# Altium schematic symbol library Local Library.SchLib: 47 symbols
Pins are listed as number, name and electrical type; pins without a type are passive.

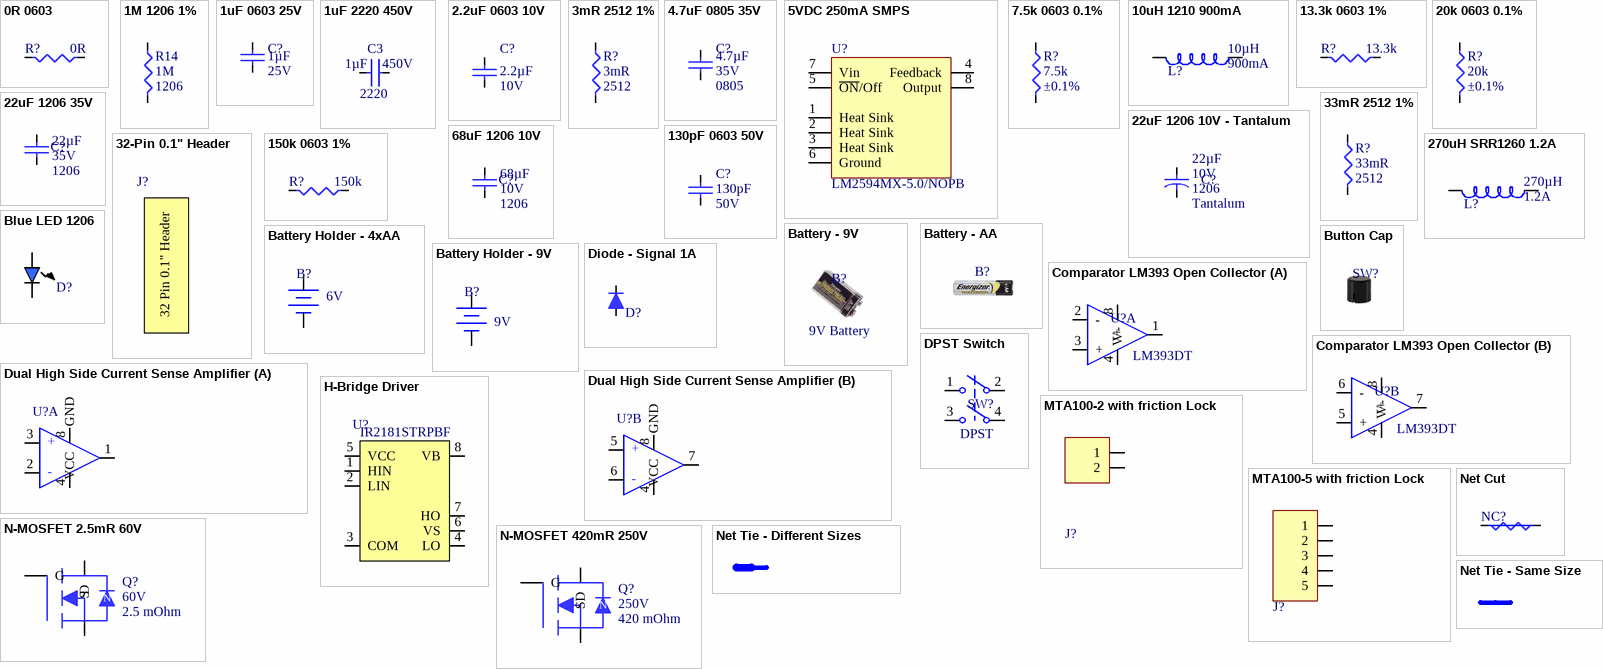
[diagram p0: symbols 0R 0603 to Net Tie - Same Size]

## 0R 0603
designator R?  Resistance (Ohms): 0R
Manufacturer: Yageo; Manufacturer Part Number: RC0603JR-070RL; Value: 0R 0603; Tolerance: Jumper; Power (Watts): 0.1W, 1/10W; Supplier 1: Digi-Key; RoHS: RoHS Compliant; Category: Resistors; Stock 1: 9876788; Pricing 1: 1=0.1, 10=0.01, 25=0.0072, 50=0.0056, 100=0.0041, 250=0.00316, 500=0.00252, 1000=0.00186 (USD); Packaging: Cut Tape (CT); Part Status: Active; Composition: Thick Film; Features: Moisture Resistant; Temperature Coefficient: -; Operating Temperature: -55°C ~ 155°C; Package / Case: 0603 (1608 Metric); Supplier Device Package: 0603; Size / Dimension: 0.063" L x 0.031" W (1.60mm x 0.80mm); Height - Seated (Max): 0.022" (0.55mm); Failure Rate: -; ComponentLink1URL: http://www.yageo.com/documents/recent/PYu-RC_Group_51_RoHS_L_7.pdf; ComponentLink1Description: Spec Sheet; Supplier Part Number 1: 311-0.0GRCT-ND
footprint R0603 (Improved footprint)
pins: 1, 2

## 1M 1206 1%
designator R14  Resistance (Ohms): 1M  Supplier Device Package: 1206  (hidden comment: 1M 1206 1%)
Resistor; Manufacturer: Yageo; Manufacturer Part Number: RV1206FR-071ML; Power (Watts): 0.25W, 1/4W; Temperature Coefficient: ±200ppm/°C; Value: 1M 1206 1%; Supplier 1: Digi-Key; Supplier Part Number 1: 311-1MNICT-ND; RoHS: RoHS Compliant; Category: Resistors; Stock 1: 79790; Pricing 1: 1=0.34, 10=0.289, 25=0.2104, 50=0.1526, 100=0.1131, 250=0.0868, 500=0.06838, 1000=0.04734 (USD); Packaging: Cut Tape (CT); Part Status: Active; Tolerance: ±1%; Composition: Thick Film; Features: High Voltage, Moisture Resistant; Operating Temperature: -55°C ~ 155°C; Size / Dimension: 0.122" L x 0.063" W (3.10mm x 1.60mm); Height - Seated (Max): 0.026" (0.65mm); Number of Terminations: 2; Failure Rate: -; ComponentLink1URL: http://www.yageo.com/documents/recent/PYu-RV_51_RoHS_L_6.pdf; ComponentLink1Description: Spec Sheet; Package / Case: 1206
footprint R1210
pins: 1, 2

## 1uF 0603 25V
designator C?  Voltage - Rated: 25V  Capacitance: 1µF
Non-polarized; Manufacturer: Murata Electronics North America; Manufacturer Part Number: GRM188R61E105KA12D; Value: 1uF 0603 16V; Tolerance: ±10%; Temperature Coefficient: X5R; Supplier 1: Digi-Key; RoHS: RoHS Compliant; Category: Capacitors; Stock 1: 1582906; Pricing 1: 1=0.14, 10=0.059, 50=0.0322, 100=0.0273, 250=0.02232, 500=0.01908, 1000=0.01488 (CAD); Packaging: Cut Tape (CT); Mounting Type: Surface Mount, MLCC; Operating Temperature: -55°C ~ 85°C; Applications: General Purpose; Ratings: -; Package / Case: 0603 (1608 Metric); Size / Dimension: 0.063" L x 0.031" W (1.60mm x 0.80mm); Height - Seated (Max): -; Thickness (Max): 0.035" (0.90mm); Lead Spacing: -; Features: -; Lead Style: -; ComponentLink1URL: http://www.murata.com/~/media/webrenewal/support/library/catalog/products/capacitor/mlcc/c02e.ashx; ComponentLink1Description: Spec Sheet; Supplier Part Number 1: 490-3897-1-ND
footprint Capacitor - 0603 Ceramic (Improved footprint)
pins: 1, 2

## 1uF 2220 450V
designator C3  Capacitance: 1µF  Voltage - Rated: 450V  Package / Case: 2220
Manufacturer: TDK Corporation; Manufacturer Part Number: CGA9P4X7T2W105M250KE; Tolerance: ±20%; Temperature Coefficient: X7T; Value: 1uF 2220 450V; Supplier 1: Digi-Key; Supplier Part Number 1: 445-7998-1-ND; RoHS: RoHS Compliant; Category: Capacitors; Stock 1: 10247; Pricing 1: 1=3.11, 10=2.576, 100=2.1589, 250=1.78012 (USD); Packaging: Cut Tape (CT); Part Status: Active; Operating Temperature: -55°C ~ 125°C; Features: Soft Termination; Ratings: AEC-Q200; Applications: Automotive, Boardflex Sensitive; Failure Rate: -; Mounting Type: Surface Mount, MLCC; Size / Dimension: 0.224" L x 0.197" W (5.70mm x 5.00mm); Height - Seated (Max): -; Thickness (Max): 0.098" (2.50mm); Lead Spacing: -; Lead Style: -; ComponentLink1URL: https://product.tdk.com/info/en/catalog/datasheets/mlcc_automotive_soft_en.pdf; ComponentLink1Description: Spec Sheet
footprint C2220 - Ceramic (Chip Capacitor, 2-Leads, Body 5.75x5.00mm, IPC Medium Density)
pins: 1, 2

## 2.2uF 0603 10V
designator C?  Voltage - Rated: 10V  Capacitance: 2.2µF
Polarized; Manufacturer: Taiyo Yuden; Manufacturer Part Number: LMK107B7225KA-T; Value: 2.2uF 0603 10V; Tolerance: ±10%; Temperature Coefficient: X7R; Supplier 1: Digi-Key; RoHS: RoHS Compliant; Category: Capacitors; Stock 1: 348987; Pricing 1: 1=0.19, 10=0.135, 100=0.0633, 500=0.04438, 1000=0.03675 (USD); Packaging: Cut Tape (CT); Part Status: Active; Operating Temperature: -55°C ~ 125°C; Features: -; Ratings: -; Applications: General Purpose; Mounting Type: Surface Mount, MLCC; Package / Case: 0603 (1608 Metric); Size / Dimension: 0.063" L x 0.031" W (1.60mm x 0.80mm); Height - Seated (Max): -; Thickness (Max): 0.035" (0.90mm); Lead Spacing: -; Lead Style: -; ComponentLink1URL: http://media.digikey.com/pdf/Data%20Sheets/Taiyo%20Yuden%20PDFs%20URL%20links/LMK107B7225KA-T.pdf; ComponentLink1Description: Spec Sheet; Supplier Part Number 1: 587-2983-1-ND
pins: 1, 2

## 3mR 2512 1%
designator R?  Resistance (Ohms): 3mR  Supplier Device Package: 2512
Manufacturer: Yageo; Manufacturer Part Number: PR2512FKF070R003L; Value: 3mR 2512 1%; Tolerance: ±1%; Power (Watts): 1W; Temperature Coefficient: ±100ppm/°C; Supplier 1: Digi-Key; Supplier Part Number 1: 311-0.003AGCT-ND; RoHS: RoHS Compliant; Category: Resistors; Stock 1: 16866; Pricing 1: 1=0.65, 10=0.544, 25=0.466, 50=0.4196, 100=0.3652, 250=0.32632, 500=0.26416, 1000=0.21366 (USD); Packaging: Cut Tape (CT); Part Status: Active; Composition: Thick Film; Features: Current Sense; Operating Temperature: -55°C ~ 170°C; Package / Case: 2512 (6432 Metric); Size / Dimension: 0.252" L x 0.126" W (6.40mm x 3.20mm); Height - Seated (Max): 0.041" (1.03mm); Number of Terminations: 2; Failure Rate: -; ComponentLink1URL: http://www.yageo.com/NewPortal/yageodocoutput?fileName=/pdf/R-Chip/-PYu-PR_51_RoHS_Z_0.pdf; ComponentLink1Description: Spec Sheet
footprint R2512
pins: 1, 2

## 4.7uF 0805 35V
designator C?  Voltage - Rated: 35V  Package / Case: 0805  Capacitance: 4.7µF
Non-polarized; Manufacturer: Samsung Electro-Mechanics America, Inc.; Manufacturer Part Number: CL21A475KLCLQNC; Value: 4.7uF 0805 35V; Tolerance: ±10%; Temperature Coefficient: X5R; Supplier 1: Digi-Key; RoHS: RoHS Compliant; Category: Capacitors; Stock 1: 145582; Pricing 1: 1=0.17, 10=0.119, 100=0.0561, 500=0.03932, 1000=0.03255 (USD); Packaging: Cut Tape (CT); Part Status: Active; Operating Temperature: -55°C ~ 85°C; Features: Low Profile; Ratings: -; Applications: General Purpose; Mounting Type: Surface Mount, MLCC; Size / Dimension: 0.079" L x 0.049" W (2.00mm x 1.25mm); Height - Seated (Max): -; Thickness (Max): 0.037" (0.95mm); Lead Spacing: -; Lead Style: -; ComponentLink1URL: http://www.samsungsem.com/kr/support/library/product-catalog/mlcc.jsp; ComponentLink1Description: Spec Sheet; Supplier Part Number 1: 1276-6722-1-ND
pins: 1, 2

## 5VDC 250mA SMPS
designator U?  Manufacturer Part Number: LM2594MX-5.0/NOPB
Manufacturer: Texas Instruments; Value: 5VDC 250mA SMPS; Function: Step-Down; Output Configuration: Positive; Topology: Buck; Output Type: Fixed; Number of Outputs: 1; Voltage - Input (Min): 4.5V; Voltage - Input (Max): 40V; Voltage - Output (Min/Fixed): 5V; Current - Output: 500mA; Frequency - Switching: 150kHz; Synchronous Rectifier: No; Supplier 1: Digi-Key; RoHS: RoHS Compliant; Category: Integrated Circuits (ICs); Stock 1: 3233; Pricing 1: 1=3.28, 10=2.942, 100=2.4102, 500=2.05176, 1000=1.7304 (USD); Packaging: Cut Tape (CT); Part Status: Active; Voltage - Output (Max): -; Operating Temperature: -40°C ~ 125°C (TJ); Mounting Type: Surface Mount; Package / Case: 8-SOIC (0.154", 3.90mm Width); Supplier Device Package: 8-SOIC; ComponentLink1URL: http://www.ti.com/lit/ds/symlink/lm2594.pdf; ComponentLink1Description: Spec Sheet; Supplier Part Number 1: LM2594MX-5.0/NOPBCT-ND
pins: 1 Heat Sink, 2 Heat Sink, 3 Heat Sink, 4 Feedback, 5 ~{ON}/Off, 6 Ground, 7 Vin, 8 Output

## 7.5k 0603 0.1%
designator R?  Resistance (Ohms): 7.5k  Tolerance: ±0.1%
Resistor; Manufacturer: Yageo; Manufacturer Part Number: RT0603BRD077K5L; Value: 7.5k 0603 0.1%; Power (Watts): 0.1W, 1/10W; Temperature Coefficient: ±25ppm/°C; Technology: SMT; Supplier 1: Digi-Key; Supplier Part Number 1: YAG2311CT-ND; RoHS: RoHS Compliant; Category: Resistors; Stock 1: 15357; Pricing 1: 1=0.32, 10=0.269, 25=0.1952, 50=0.1416, 100=0.105, 250=0.0806, 500=0.0635, 1000=0.04396 (USD); Packaging: Cut Tape (CT); Part Status: Active; Composition: Thin Film; Features: Moisture Resistant; Operating Temperature: -55°C ~ 155°C; Package / Case: 0603 (1608 Metric); Supplier Device Package: 0603; Size / Dimension: 0.063" L x 0.031" W (1.60mm x 0.80mm); Height - Seated (Max): 0.022" (0.55mm); Number of Terminations: 2; Failure Rate: -; ComponentLink1URL: http://www.yageo.com/documents/recent/PYu-RT_1-to-0.05_RoHS_L_7.pdf; ComponentLink1Description: Spec Sheet
footprint R0603 (Improved footprint)
pins: 1, 2

## 10uH 1210 900mA
designator L?  Inductance: 10µH  Current - Saturation: 900mA
Inductor; Manufacturer: Taiyo Yuden; Manufacturer Part Number: CBC3225T100KR; Value: 10uH 1210 900mA; Type: Wirewound; Material - Core: Ferrite; Tolerance: ±10%; Shielding: Unshielded; DC Resistance (DCR): 172.9 mOhm Max; Frequency - Self Resonant: 23MHz; Supplier 1: Digi-Key; RoHS: RoHS Compliant; Category: Inductors, Coils, Chokes; Stock 1: 25536; Pricing 1: 1=0.27, 10=0.237, 25=0.2076, 50=0.178, 100=0.1632, 250=0.1484, 500=0.1395 (USD); Packaging: Cut Tape (CT); Part Status: Active; Current Rating: 900mA; Q @ Freq: -; Ratings: -; Operating Temperature: -40°C ~ 105°C; Mounting Type: Surface Mount; Supplier Device Package: 1210; Size / Dimension: 0.126" L x 0.098" W (3.20mm x 2.50mm); Height - Seated (Max): 0.106" (2.70mm); ComponentLink1URL: http://ds.yuden.co.jp/TYCOMPAS/ut/detail.do?productNo=CBC3225T100KR&fileName=CBC3225T100KR_SS&mode=specSheetDownload; ComponentLink1Description: Spec Sheet; Supplier Part Number 1: 587-3064-1-ND; Package / Case: 1210
pins: 1, 2

## 13.3k 0603 1%
designator R?  Resistance (Ohms): 13.3k
Manufacturer: Yageo; Manufacturer Part Number: RC0603FR-0713K3L; Value: 13.3k 0603 1%; Tolerance: ±1%; Power (Watts): 0.1W, 1/10W; Temperature Coefficient: ±100ppm/°C; Supplier 1: Digi-Key; RoHS: RoHS Compliant; Category: Resistors; Stock 1: 289877; Pricing 1: 1=0.1, 10=0.015, 100=0.006, 1000=0.00268, 2500=0.00233 (USD); Packaging: Cut Tape (CT); Part Status: Active; Composition: Thick Film; Features: Moisture Resistant; Operating Temperature: -55°C ~ 155°C; Package / Case: 0603 (1608 Metric); Supplier Device Package: 0603; Size / Dimension: 0.063" L x 0.031" W (1.60mm x 0.80mm); Height - Seated (Max): 0.022" (0.55mm); Failure Rate: -; ComponentLink1URL: http://www.yageo.com/documents/recent/PYu-RC_Group_51_RoHS_L_7.pdf; ComponentLink1Description: Spec Sheet; Supplier Part Number 1: 311-13.3KHRCT-ND
footprint R0603 (Improved footprint)
pins: 1, 2

## 20k 0603 0.1%
designator R?  Resistance (Ohms): 20k  Tolerance: ±0.1%
Resistor; Manufacturer: Yageo; Manufacturer Part Number: RT0603BRD0720KL; Value: 20k 0603 0.1%; Power (Watts): 0.1W, 1/10W; Temperature Coefficient: ±25ppm/°C; Technology: SMT; Supplier 1: Digi-Key; Supplier Part Number 1: YAG1582CT-ND; RoHS: RoHS Compliant; Category: Resistors; Stock 1: 24543; Pricing 1: 1=0.35, 10=0.297, 25=0.216, 50=0.1566, 100=0.1161, 250=0.08912, 500=0.0702, 1000=0.0486 (USD); Packaging: Cut Tape (CT); Part Status: Active; Composition: Thin Film; Features: Moisture Resistant; Operating Temperature: -55°C ~ 155°C; Package / Case: 0603 (1608 Metric); Supplier Device Package: 0603; Size / Dimension: 0.063" L x 0.031" W (1.60mm x 0.80mm); Height - Seated (Max): 0.022" (0.55mm); Number of Terminations: 2; Failure Rate: -; ComponentLink1URL: http://www.yageo.com/documents/recent/PYu-RT_1-to-0.05_RoHS_L_7.pdf; ComponentLink1Description: Spec Sheet
footprint R0603 (Improved footprint)
pins: 1, 2

## 22uF 1206 10V - Tantalum
designator C?  Voltage - Rated: 10V  Package / Case: 1206  Capacitance: 22µF  Material: Tantalum
Polarized; Manufacturer: AVX Corporation; Manufacturer Part Number: TPSA226M010R0900; Manufacturer Size Code: A; Value: 22uF 1206 10V - Tantalum; Tolerance: ±20%; Type: Molded; ESR (Equivalent Series Resistance): 900 mOhm; Supplier 1: Digi-Key; RoHS: RoHS Compliant; Category: Capacitors; Stock 1: 13605; Pricing 1: 1=0.77, 10=0.567, 100=0.3889, 500=0.30788, 1000=0.25927 (USD); Packaging: Cut Tape (CT); Part Status: Active; Operating Temperature: -55°C ~ 125°C; Lifetime @ Temp.: -; Mounting Type: Surface Mount; Size / Dimension: 0.126" L x 0.063" W (3.20mm x 1.60mm); Height - Seated (Max): 0.071" (1.80mm); Lead Spacing: -; Features: General Purpose; Failure Rate: -; ComponentLink1URL: http://datasheets.avx.com/TPS.pdf; ComponentLink1Description: Spec Sheet; Supplier Part Number 1: 478-9039-1-ND
pins: 1, 2

## 22uF 1206 35V
designator C?  Capacitance: 22µF  Voltage - Rated: 35V  Package / Case: 1206
Non-polarized; Manufacturer: TDK Corporation; Manufacturer Part Number: C3216X5R1V226M160AC; Value: 22uF 1206 35V; Tolerance: ±20%; Temperature Coefficient: X5R; Supplier 1: Digi-Key; RoHS: RoHS Compliant; Category: Capacitors; Stock 1: 661971; Pricing 1: 1=1.06, 10=0.835, 100=0.6262, 500=0.47312, 1000=0.41745 (USD); Packaging: Cut Tape (CT); Part Status: Active; Operating Temperature: -55°C ~ 85°C; Features: Low ESL; Ratings: -; Applications: General Purpose; Failure Rate: -; Mounting Type: Surface Mount, MLCC; Size / Dimension: 0.126" L x 0.063" W (3.20mm x 1.60mm); Height - Seated (Max): -; Thickness (Max): 0.071" (1.80mm); Lead Spacing: -; Lead Style: -; ComponentLink1URL: https://product.tdk.com/info/en/catalog/datasheets/mlcc_commercial_general_en.pdf; ComponentLink1Description: Spec Sheet; Supplier Part Number 1: 445-8045-1-ND
pins: 1, 2

## 32-Pin 0.1" Header
designator J?  (value not drawn)
Manufacturer: Wurth Electronics Inc; Manufacturer Part Number: 61303211821; Style: Board to Board; Number of Positions: 32; Number of Positions Loaded: All; Pitch - Mating: 0.100" (2.54mm); Contact Length - Post: 0.122" (3.10mm); Material Flammability Rating: UL94 V-0; Current Rating: 3A; Voltage Rating: 250VAC; Supplier 1: Digi-Key; RoHS: RoHS Compliant; Category: Connectors, Interconnects; Stock 1: 332; Pricing 1: 1=1.86, 10=1.788, 50=1.65, 100=1.5125, 500=1.375 (USD); Packaging: Tray; Part Status: Active; Connector Type: Header; Contact Type: Forked; Number of Rows: 1; Row Spacing - Mating: -; Mounting Type: Through Hole; Termination: Solder; Fastening Type: Push-Pull; Contact Finish - Mating: Gold; Contact Finish Thickness - Mating: -; Insulation Color: Black; Insulation Height: 0.335" (8.51mm); Operating Temperature: -40°C ~ 105°C; Contact Finish - Post: Gold; Mated Stacking Heights: -; Ingress Protection: -; Features: -; Applications: -; Insulation Material: Polybutylene Terephthalate (PBT); Contact Shape: Square; Contact Material: Copper Alloy; Contact Finish Thickness - Post: -; ComponentLink1URL: http://katalog.we-online.de/em/datasheet/6130xx11821.pdf; ComponentLink1Description: Spec Sheet; Supplier Part Number 1: 732-2860-ND
text: 32 Pin 0.1" Header

## 33mR 2512 1%
designator R?  Resistance (Ohms): 33mR  Supplier Device Package: 2512
Manufacturer: Yageo; Manufacturer Part Number: RL2512FK-070R033L; Value: 3mR 2512 1%; Tolerance: ±1%; Power (Watts): 1W; Temperature Coefficient: ±1200ppm/°C; Supplier 1: Digi-Key; Supplier Part Number 1: 311-.033TCT-ND; RoHS: RoHS Compliant; Category: Resistors; Stock 1: 13739; Pricing 1: 1=0.61, 10=0.453, 25=0.3676, 50=0.3196, 100=0.2636, 250=0.229, 500=0.1864, 1000=0.14784 (USD); Packaging: Cut Tape (CT); Part Status: Active; Composition: Thick Film; Features: Automotive AEC-Q200, Current Sense, Moisture Resistant; Operating Temperature: -55°C ~ 155°C; Package / Case: 2512 (6432 Metric); Size / Dimension: 0.250" L x 0.126" W (6.35mm x 3.20mm); Height - Seated (Max): 0.026" (0.65mm); Number of Terminations: 2; Failure Rate: -; ComponentLink1URL: http://www.yageo.com/documents/recent/PYu-RL_Group_521_RoHS_L%201.pdf; ComponentLink1Description: http://www.yageo.com/documents/recent/PYu-RL_Group_521_RoHS_L%201.pdf
footprint R2512
pins: 1, 2

## 68uF 1206 10V
designator C?  Voltage - Rated: 10V  Package / Case: 1206  Capacitance: 68µF
Non-polarized; Manufacturer: TDK Corporation; Manufacturer Part Number: C3216X5R1A686M160AC; Value: 68uF 1206 10V; Tolerance: ±20%; Temperature Coefficient: X5R; Supplier 1: Digi-Key; RoHS: RoHS Compliant; Category: Capacitors; Stock 1: 17695; Pricing 1: 1=1.59, 10=1.252, 100=0.9393, 500=0.70966, 1000=0.62618 (USD); Packaging: Cut Tape (CT); Part Status: Active; Operating Temperature: -55°C ~ 85°C; Features: Low ESL; Ratings: -; Applications: General Purpose; Failure Rate: -; Mounting Type: Surface Mount, MLCC; Size / Dimension: 0.126" L x 0.063" W (3.20mm x 1.60mm); Height - Seated (Max): -; Thickness (Max): 0.071" (1.80mm); Lead Spacing: -; Lead Style: -; ComponentLink1URL: https://product.tdk.com/info/en/catalog/datasheets/mlcc_commercial_general_en.pdf; ComponentLink1Description: Spec Sheet; Supplier Part Number 1: 445-14673-1-ND
pins: 1, 2

## 130pF 0603 50V
designator C?  Voltage - Rated: 50V  Capacitance: 130pF
Non-polarized; Manufacturer: Samsung Electro-Mechanics America, Inc.; Manufacturer Part Number: CL10C131JB8NNNC; Value: 130pF 0603 50V; Tolerance: ±5%; Temperature Coefficient: C0G, NP0; Supplier 1: Digi-Key; RoHS: RoHS Compliant; Category: Capacitors; Stock 1: 72882; Pricing 1: 1=0.1, 10=0.056, 100=0.0251, 500=0.0179, 1000=0.01407 (USD); Packaging: Cut Tape (CT); Part Status: Active; Operating Temperature: -55°C ~ 125°C; Features: -; Ratings: -; Applications: General Purpose; Mounting Type: Surface Mount, MLCC; Package / Case: 0603 (1608 Metric); Size / Dimension: 0.063" L x 0.031" W (1.60mm x 0.80mm); Height - Seated (Max): -; Thickness (Max): 0.035" (0.90mm); Lead Spacing: -; Lead Style: -; ComponentLink1URL: http://media.digikey.com/pdf/Data%20Sheets/Samsung%20PDFs/CL_Series_MLCC_ds.pdf; ComponentLink1Description: Spec Sheet; Supplier Part Number 1: 1276-2186-1-ND
pins: 1, 2

## 150k 0603 1%
designator R?  Resistance (Ohms): 150k
Manufacturer: Yageo; Manufacturer Part Number: RC0603FR-07150KL; Value: 150k 0603 1%; Tolerance: ±1%; Power (Watts): 0.1W, 1/10W; Temperature Coefficient: ±100ppm/°C; Supplier 1: Digi-Key; RoHS: RoHS Compliant; Category: Resistors; Stock 1: 705809; Pricing 1: 1=0.1, 10=0.015, 100=0.006, 1000=0.00268, 2500=0.00233 (USD); Packaging: Cut Tape (CT); Part Status: Active; Composition: Thick Film; Features: Moisture Resistant; Operating Temperature: -55°C ~ 155°C; Package / Case: 0603 (1608 Metric); Supplier Device Package: 0603; Size / Dimension: 0.063" L x 0.031" W (1.60mm x 0.80mm); Height - Seated (Max): 0.022" (0.55mm); Failure Rate: -; ComponentLink1URL: http://www.yageo.com/documents/recent/PYu-RC_Group_51_RoHS_L_7.pdf; ComponentLink1Description: Spec Sheet; Supplier Part Number 1: 311-150KHRCT-ND
footprint R0603 (Improved footprint)
pins: 1, 2

## 270uH SRR1260 1.2A
designator L?  Inductance: 270µH  Current - Saturation: 1.2A
Inductor; Manufacturer: Bourns Inc.; Manufacturer Part Number: SRR1260-271K; Value: 270uH SRR1260 1.2A; Type: Wirewound; Material - Core: Ferrite; Tolerance: ±10%; Current Rating: 1.3A; Shielding: Shielded; DC Resistance (DCR): 450 mOhm Max; Q @ Freq: 20 @ 796kHz; Frequency - Self Resonant: 3.6MHz; Supplier 1: Digi-Key; RoHS: RoHS Compliant; Category: Inductors, Coils, Chokes; Stock 1: 13499; Pricing 1: 1=1, 10=0.927, 100=0.6702 (USD); Packaging: Cut Tape (CT); Part Status: Active; Ratings: -; Operating Temperature: -40°C ~ 125°C; Mounting Type: Surface Mount; Package / Case: Nonstandard; Supplier Device Package: -; Size / Dimension: 0.492" L x 0.492" W (12.50mm x 12.50mm); Height - Seated (Max): 0.256" (6.50mm); ComponentLink1URL: http://www.bourns.com/docs/Product-Datasheets/SRR1260.pdf; ComponentLink1Description: Spec Sheet; Supplier Part Number 1: SRR1260-271KCT-ND
pins: 1, 2

## Battery - 9V
designator B?  value 9V Battery  (hidden comment: Battery - 9V)  (mechanical)
Manufacturer: Energizer Battery Company; Manufacturer Part Number: EN22; Battery Chemistry: Alkaline; Supplier 1: Digi-Key; RoHS: Not Applicable; Category: Battery Products; Stock 1: 66371; Pricing 1: 1=1.8, 10=1.62, 50=1.44, 100=1.26, 250=1.152, 500=1.08, 1000=0.99, 2500=0.918, 5000=0.9 (USD); Part Status: Active; Battery Cell Size: 9V; Voltage - Rated: 9V; Capacity: -; Size / Dimension: 1.04" L x 0.69" W x 1.91" H (26.5mm x 17.5mm x 48.5mm); Termination Style: 9 Volt Snap Fasteners; Discharge Rate: -; Weight: 45.59g; Shipping Info: -; ComponentLink1URL: http://data.energizer.com/PDFs/EN22.pdf; ComponentLink1Description: Spec Sheet; Supplier Part Number 1: N145-ND

## Battery - AA
designator B?  (mechanical)
Manufacturer: Energizer Battery Company; Manufacturer Part Number: EN91; Value: AA Battery; Battery Chemistry: Alkaline; Battery Cell Size: AA; Voltage - Rated: 1.5V; Supplier 1: Digi-Key; RoHS: Not Applicable; Category: Battery Products; Stock 1: 200131; Pricing 1: 1=0.53, 10=0.473, 50=0.42, 100=0.3675, 250=0.336, 500=0.315, 1000=0.28875, 2500=0.26775, 5000=0.2625 (USD); Part Status: Active; Capacity: -; Size / Dimension: 0.57" Dia x 1.99" H (14.5mm x 50.5mm); Termination Style: Button Top (Extending); Discharge Rate: -; Weight: 22.8g; Shipping Info: -; ComponentLink1URL: http://data.energizer.com/PDFs/EN91.pdf; ComponentLink1Description: Spec Sheet; Supplier Part Number 1: N107-ND

## Battery Holder - 4xAA
designator B?  Voltage: 6V
Manufacturer: Keystone Electronics; Manufacturer Part Number: 2477; Battery Type, Function: Cylindrical, Holder; Style: Holder (Open); Battery Cell Size: AA; Number of Cells: 4; Supplier 1: Digi-Key; RoHS: RoHS Compliant; Category: Battery Products; Stock 1: 2426; Pricing 1: 1=2.23, 10=1.365, 50=1.2254, 100=1.1697, 250=1.05832, 500=0.97476, 1000=0.93598, 2500=0.8355, 5000=0.78648 (USD); Part Status: Active; Battery Series: -; Mounting Type: PCB, Through Hole; Termination Style: PC Pin; Height Above Board: 0.630" (16.00mm); Operating Temperature: -; ComponentLink1URL: http://www.keyelco.com/product-pdf.cfm?p=1039; ComponentLink1Description: Spec Sheet; Supplier Part Number 1: 36-2477-ND
footprint 4xAA Battery Holder
pins: 1, 2

## Battery Holder - 9V
designator B?  Battery Cell Size: 9V  (hidden comment: Battery Holder - 9V)
Manufacturer: MPD (Memory Protection Devices); Manufacturer Part Number: BH9VPC; Battery Type, Function: 9V, Holder; Style: Holder (Open); Number of Cells: 1; Value: 9V Battery Holder; Supplier 1: Digi-Key; RoHS: RoHS Compliant; Category: Battery Products; Stock 1: 7369; Pricing 1: 1=1.6, 10=1.47, 100=1.3362, 500=1.1322, 1000=0.95881 (USD); Part Status: Active; Battery Series: -; Mounting Type: PCB, Through Hole; Termination Style: PC Pin; Height Above Board: 0.812" (20.62mm); Operating Temperature: -; ComponentLink1URL: http://www.memoryprotectiondevices.com/datasheets/BH9VPC-datasheet.pdf; ComponentLink1Description: Spec Sheet; Supplier Part Number 1: BH9V-PC-ND
footprint 9V Battery Holder
pins: 1, 2

## Blue LED 1206
designator D?  (value not drawn)
Single Colour; Manufacturer: Lite-On Inc; Manufacturer Part Number: LTST-C150TBKT; Wavelength - Dominant: 470nm; Wavelength - Peak: 468nm; Millicandela Rating: 104mcd; Voltage - Forward (Vf) (Typ): 3.3V; Current - Test: 20mA; Viewing Angle: 130°; Lens Transparency: Clear; Lens Color: Colorless; Lens Style/Size: Rectangle with Flat Top, 2.06mm x 1.60mm; Value: Blue LED 1206; Supplier 1: Digi-Key; RoHS: RoHS Compliant; Category: Optoelectronics; Stock 1: 185598; Pricing 1: 1=0.65, 10=0.485, 100=0.2567, 250=0.1816, 500=0.15498, 1000=0.12108 (CAD); Packaging: Cut Tape (CT); Color: Blue; Package / Case: 1206 (3216 Metric); Supplier Device Package: 1206; Size / Dimension: 3.20mm L x 1.60mm W; Height (Max): 1.10mm; Mounting Type: Surface Mount; ComponentLink1URL: http://optoelectronics.liteon.com/upload/download/DS22-2000-026/S_110_LTST-C150TBKT(0630).pdf; ComponentLink1Description: Spec Sheet; Supplier Part Number 1: 160-1643-1-ND
footprint LED - 1206 Blue
pins: 1, 2

## Button Cap
designator SW?  (value not drawn)  (mechanical)
Manufacturer: C&K; Manufacturer Part Number: PV BK; Switch Type: Keyswitch; Shape: Round; Illumination: Non-Illuminated; For Use With/Related Products: PVA Series; Supplier 1: Digi-Key; RoHS: RoHS Compliant; Category: Switches; Stock 1: 2210; Pricing 1: 1=0.42, 10=0.401, 25=0.3924, 50=0.3842, 100=0.3758, 250=0.35904, 500=0.3507, 1000=0.2672, 5000=0.2505 (USD); Part Status: Active; Color: Black; Mounting Type: Snap Fit; Size: 7.40mm Dia x 7.00mm H; Features: -; ComponentLink1URL: http://www.ckswitches.com/media/1413/pn.pdf; ComponentLink1Description: Spec Sheet; Supplier Part Number 1: 401-1148-ND; Value: Button Cap

## Comparator LM393 Open Collector
designator U?  Manufacturer Part Number: LM393DT  (hidden comment: *)
Manufacturer: STMicroelectronics; Value: Comparator LM393 Open Collector; Description: IC COMPARATOR LP DUAL 8-SOIC; Output Type: CMOS, DTL, ECL, MOS, Open-Collector, TTL; Voltage - Supply, Single/Dual (±): 2 V ~ 36 V, ±1 V ~ 18 V; Voltage - Input Offset (Max): 5mV @ 30V; Current - Input Bias (Max): 0.25µA @ 5V; Current - Output (Typ): 18mA @ 5V; Current - Quiescent (Max): 2.5mA; Supplier 1: Digi-Key; RoHS: RoHS Compliant; Category: Integrated Circuits (ICs); Stock 1: 9950; Pricing 1: 1=0.39, 10=0.295, 100=0.184, 500=0.12586, 1000=0.09682 (USD); Packaging: Cut Tape (CT); Part Status: Active; Type: General Purpose; CMRR, PSRR (Typ): -; Propagation Delay (Max): -; Hysteresis: -; Operating Temperature: 0°C ~ 70°C; Package / Case: 8-SOIC (0.154", 3.90mm Width); Mounting Type: Surface Mount; Supplier Device Package: 8-SO; ComponentLink1URL: http://www.st.com/content/ccc/resource/technical/document/datasheet/group1/b4/cc/cf/13/18/28/44/f5/CD00000465/files/CD00000465.pdf/jcr:content/translations/en.CD00000465.pdf; ComponentLink1Description: Spec Sheet; Supplier Part Number 1: 497-1593-1-ND
part A pins: 1 Out, 2 -, 3 +, 4 V-, 8 V+
part B pins: 4 V-, 5 +, 6 -, 7 Out, 8 V+

## Diode - Signal 1A
designator D?
Signal Diode; Manufacturer: Vishay Semiconductor Diodes Division; Manufacturer Part Number: US1G-E3/5AT; Diode Type: Standard; Voltage - DC Reverse (Vr) (Max): 400V; Current - Average Rectified (Io): 1A; Voltage - Forward (Vf) (Max) @ If: 1V @ 1A; Speed: Fast Recovery =< 500ns, > 200mA (Io); Reverse Recovery Time (trr): 50ns; Current - Reverse Leakage @ Vr: 10µA @ 400V; Capacitance @ Vr, F: 15pF @ 4V, 1MHz; Supplier 1: Digi-Key; Supplier Part Number 1: US1G-E3/5ATGICT-ND; RoHS: RoHS Compliant; Category: Discrete Semiconductor Products; Stock 1: 29002; Pricing 1: 1=0.41, 10=0.312, 25=0.2816, 100=0.1945, 250=0.1638, 500=0.1331, 1000=0.10238, 2500=0.09214 (USD); Packaging: Cut Tape (CT); Part Status: Active; Mounting Type: Surface Mount; Package / Case: DO-214AC, SMA; Supplier Device Package: DO-214AC (SMA); Operating Temperature - Junction: -55°C ~ 150°C; ComponentLink1URL: http://www.vishay.com/docs/88768/us1.pdf; ComponentLink1Description: Spec Sheet
pins: 1 Anode, 2 Cathode

## DPST Switch
designator SW?  Circuit: DPST  (hidden comment: DPST Switch)
Manufacturer: C&K; Manufacturer Part Number: PVA1 EE H1; Switch Function: Off-On; Current Rating: 100mA (DC); Voltage Rating - DC: 32V; Actuator Type: Plunger for Cap; Color - Actuator/Cap: Red; Electrical Life: 100,000 Cycles; Supplier 1: Digi-Key; RoHS: RoHS Compliant; Category: Switches; Stock 1: 8248; Pricing 1: 1=1.26, 10=1.176, 25=1.12, 50=1.064, 100=1.036, 250=1.008, 500=0.952, 1000=0.896, 5000=0.756 (USD); Packaging: Bulk; Part Status: Active; Type: Keyswitch; Voltage Rating - AC: -; Illumination Type, Color: -; Illumination Voltage (Nominal): -; Mounting Type: Through Hole; Termination Style: PC Pin; Ingress Protection: -; Features: -; Panel Cutout Dimensions: -; Operating Temperature: -40°C ~ 85°C; Mechanical Life: -; ComponentLink1URL: http://www.ckswitches.com/media/1343/pva.pdf; ComponentLink1Description: Spec Sheet; Supplier Part Number 1: 401-1132-ND; Value: DPST Switch
footprint DPST Switch
pins: 1, 2, 3, 4

## Dual High Side Current Sense Amplifier
designator U?  (value not drawn)
Manufacturer: Maxim Integrated; Manufacturer Part Number: MAX4377FASA+; Number of Circuits: 2; Slew Rate: 10 V/µs; -3db Bandwidth: 1.7MHz; Current - Input Bias: 800µA; Current - Supply: 1mA; Voltage - Supply, Single/Dual (±): 3 V ~ 28 V; Supplier 1: Digi-Key; RoHS: RoHS Compliant; Category: Integrated Circuits (ICs); Stock 1: 695; Pricing 1: 1=1.98, 10=1.881, 50=1.8742 (USD); Packaging: Tube; Part Status: Active; Amplifier Type: Current Sense; Output Type: -; Gain Bandwidth Product: -; Voltage - Input Offset: -; Current - Output / Channel: -; Operating Temperature: -40°C ~ 125°C; Mounting Type: Surface Mount; Package / Case: 8-SOIC (0.154", 3.90mm Width); Supplier Device Package: 8-SOIC; ComponentLink1URL: https://datasheets.maximintegrated.com/en/ds/MAX4376-MAX4378.pdf; ComponentLink1Description: Spec Sheet; Supplier Part Number 1: MAX4377FASA+-ND
footprint SOIC-8 (3.9mm)
part A pins: 1 Out, 2 RS1-, 3 RS1+, 4            GND, 8            VCC
part B pins: 4            GND, 5 RS2+, 6 RS2-, 7 OUT2, 8            VCC
part A text: +
part B text: +

## H-Bridge Driver
designator U?  Manufacturer Part Number: IR2181STRPBF
Manufacturer: Infineon Technologies; Driven Configuration: Half-Bridge; Channel Type: Independent; Gate Type: IGBT, N-Channel MOSFET; Voltage - Supply: 10 V ~ 20 V; Logic Voltage - VIL, VIH: 0.8V, 2.7V; Current - Peak Output (Source, Sink): 1.9A, 2.3A; Input Type: Non-Inverting; High Side Voltage - Max (Bootstrap): 600V; Rise / Fall Time (Typ): 40ns, 20ns; Supplier 1: Digi-Key; RoHS: RoHS Compliant; Category: Integrated Circuits (ICs); Stock 1: 2915; Pricing 1: 1=3.06, 10=2.75, 100=2.2535, 500=1.9184, 1000=1.61792 (USD); Packaging: Cut Tape (CT); Part Status: Active; Operating Temperature: -40°C ~ 150°C (TJ); Mounting Type: Surface Mount; Package / Case: 8-SOIC (0.154", 3.90mm Width); Supplier Device Package: 8-SOIC; ComponentLink1URL: http://www.irf.com/product-info/datasheets/data/ir2181.pdf; ComponentLink1Description: Spec Sheet; Supplier Part Number 1: IR2181SPBFCT-ND
footprint SOIC-8 (Copper Only)
pins: 1 HIN, 2 LIN, 3 COM, 4 LO, 5 VCC, 6 VS, 7 HO, 8 VB

## MTA100-2 with friction Lock
designator J?
Manufacturer: TE Connectivity AMP Connectors; Manufacturer Part Number: 640456-2; Value: MTA100-2 with friction Lock; Connector Type: Header; Pitch - Mating: 0.100" (2.54mm); Style: Board to Cable/Wire; Shrouding: Shrouded - 1 Wall; Number of Positions: 2; Number of Positions Loaded: All; Contact Length - Mating: 0.295" (7.49mm); Contact Length - Post: 0.140" (3.56mm); Overall Contact Length: 0.535" (13.59mm); Material Flammability Rating: UL94 V-0; Current Rating: Varies by Wire Gauge; Voltage Rating: 250VAC; Supplier 1: Digi-Key; RoHS: RoHS Compliant; Category: Connectors, Interconnects; Stock 1: 177276; Pricing 1: 1=0.12, 10=0.117, 50=0.0748, 100=0.0724, 250=0.0624, 500=0.05992, 1000=0.05243, 2500=0.04744 (USD); Packaging: Bulk; Part Status: Active; Contact Type: Male Pin; Number of Rows: 1; Row Spacing - Mating: -; Mounting Type: Through Hole; Termination: Solder; Fastening Type: Friction Lock; Insulation Height: 0.305" (7.75mm); Contact Shape: Square; Contact Finish - Mating: Tin; Contact Finish Thickness - Mating: -; Contact Finish - Post: Tin; Contact Material: Copper Alloy; Insulation Material: Thermoplastic; Features: -; Operating Temperature: -55°C ~ 105°C; Ingress Protection: -; Insulation Color: Natural; Mated Stacking Heights: -; Contact Finish Thickness - Post: -; Applications: General Purpose; ComponentLink1URL: http://www.te.com/commerce/DocumentDelivery/DDEController?Action=srchrtrv&DocNm=640456&DocType=Customer+Drawing&DocLang=English; ComponentLink1Description: Spec Sheet; Supplier Part Number 1: A1921-ND
pins: 1, 2

## MTA100-5 with friction Lock
designator J?
Flash Programmer; Manufacturer: TE Connectivity; Manufacturer Part Number: 640456-5; Connector Type: Header, Unshrouded; Number of Positions: 5; Number of Positions Loaded: All; Pitch: 0.100" (2.54mm); Value: MTA100 - 5-Pin with friction Lock; Supplier 1: Digi-Key; Supplier Part Number 1: A19471-ND; RoHS: RoHS Compliant; Category: Connectors, Interconnects; Stock 1: 38829; Pricing 1: 1=0.34, 10=0.314, 50=0.2286, 100=0.2197, 250=0.1972, 500=0.18824, 1000=0.15687, 2500=0.14343, 5000=0.13446 (CAD); Packaging: Bulk; Contact Type: Male Pin; Number of Rows: 1; Row Spacing: -; Contact Mating Length: 0.295" (7.49mm); Mounting Type: Through Hole; Termination: Solder; Fastening Type: Friction Lock; Features: -; Contact Finish: Tin; Contact Finish Thickness: -; Color: Natural; ComponentLink1URL: http://www.te.com/commerce/DocumentDelivery/DDEController?Action=srchrtrv&DocNm=640456&DocType=Customer+Drawing&DocLang=English; ComponentLink1Description: Spec Sheet
pins: 1, 2, 3, 4, 5

## N-MOSFET 2.5mR 60V
designator Q?, comment Drain to Source Voltage (Vdss): 60V  Rds On (Max) @ Id, Vgs: 2.5 mOhm  (hidden comment: N-MOSFET)
Manufacturer: Infineon Technologies; Manufacturer Part Number: IPD025N06N; FET Type: N-Channel; Current - Continuous Drain (Id) @ 25°C: 90A; Drive Voltage (Max Rds On,  Min Rds On): 6V, 10V; Vgs(th) (Max) @ Id: 2.8V @ 95µA; Gate Charge (Qg) (Max) @ Vgs: 71nC @ 10V; Input Capacitance (Ciss) (Max) @ Vds: 5200pF @ 30V; Vgs (Max): ±20V; Power Dissipation (Max): 3W (Ta), 167W (Tc); Value: N-MOSFET 2.5mR; Supplier 1: Digi-Key; Supplier Part Number 1: IPD025N06NCT-ND; RoHS: RoHS Compliant; Category: Discrete Semiconductor Products; Stock 1: 5405; Pricing 1: 1=1.91, 10=1.72, 100=1.3822, 500=1.13558, 1000=0.94091 (USD); Packaging: Cut Tape (CT); Part Status: Active; Technology: MOSFET (Metal Oxide); FET Feature: -; Operating Temperature: -55°C ~ 175°C (TJ); Mounting Type: Surface Mount; Supplier Device Package: PG-TO252-3; Package / Case: TO-252-3, DPak (2 Leads + Tab), SC-63; ComponentLink1URL: http://www.infineon.com/dgdl/IPD025N06N_Rev2+1.pdf?folderId=db3a304313b8b5a60113cee8763b02d7&fileId=db3a304336415dec0136531648062c76; ComponentLink1Description: Spec Sheet
footprint DPAK
pins: 1 G, 2     D, 3     S
text: N

## N-MOSFET 420mR 250V
designator Q?  Drain to Source Voltage (Vdss): 250V  Rds On (Max) @ Id, Vgs: 420 mOhm
Manufacturer: Fairchild/ON Semiconductor; Manufacturer Part Number: FQD9N25TM; FET Type: N-Channel; Current - Continuous Drain (Id) @ 25°C: 7.4A (Tc); Drive Voltage (Max Rds On,  Min Rds On): 10V; Vgs(th) (Max) @ Id: 5V @ 250µA; Gate Charge (Qg) (Max) @ Vgs: 20nC @ 10V; Input Capacitance (Ciss) (Max) @ Vds: 700pF @ 25V; Vgs (Max): ±30V; Power Dissipation (Max): 2.5W (Ta), 55W (Tc); Supplier 1: Digi-Key; Supplier Part Number 1: FQD9N25TMCT-ND; RoHS: RoHS Compliant; Category: Discrete Semiconductor Products; Stock 1: 4941; Pricing 1: 1=0.86, 10=0.766, 100=0.597, 500=0.49316, 1000=0.38934 (USD); Packaging: Cut Tape (CT); Part Status: Active; Technology: MOSFET (Metal Oxide); FET Feature: -; Operating Temperature: -55°C ~ 150°C (TJ); Mounting Type: Surface Mount; Supplier Device Package: D-Pak; Package / Case: TO-252-3, DPak (2 Leads + Tab), SC-63; ComponentLink1URL: https://www.fairchildsemi.com/datasheets/FQ/FQD9N25.pdf; ComponentLink1Description: Spec Sheet
footprint DPAK
pins: 1 G, 2     D, 3    S
text: N

## Net Cut
designator NC?  (net tie, no BOM)
Convienient place to cut a trace with the ability to fix it afterwards
pins: 1, 2

## Net Tie - Different Sizes
designator NT?  (value not drawn)  (net tie, no BOM)
Ties two nets together
pins: 1, 2

## Net Tie - Same Size
designator NT?  (value not drawn)  (net tie, no BOM)
Ties two nets together
pins: 1, 2

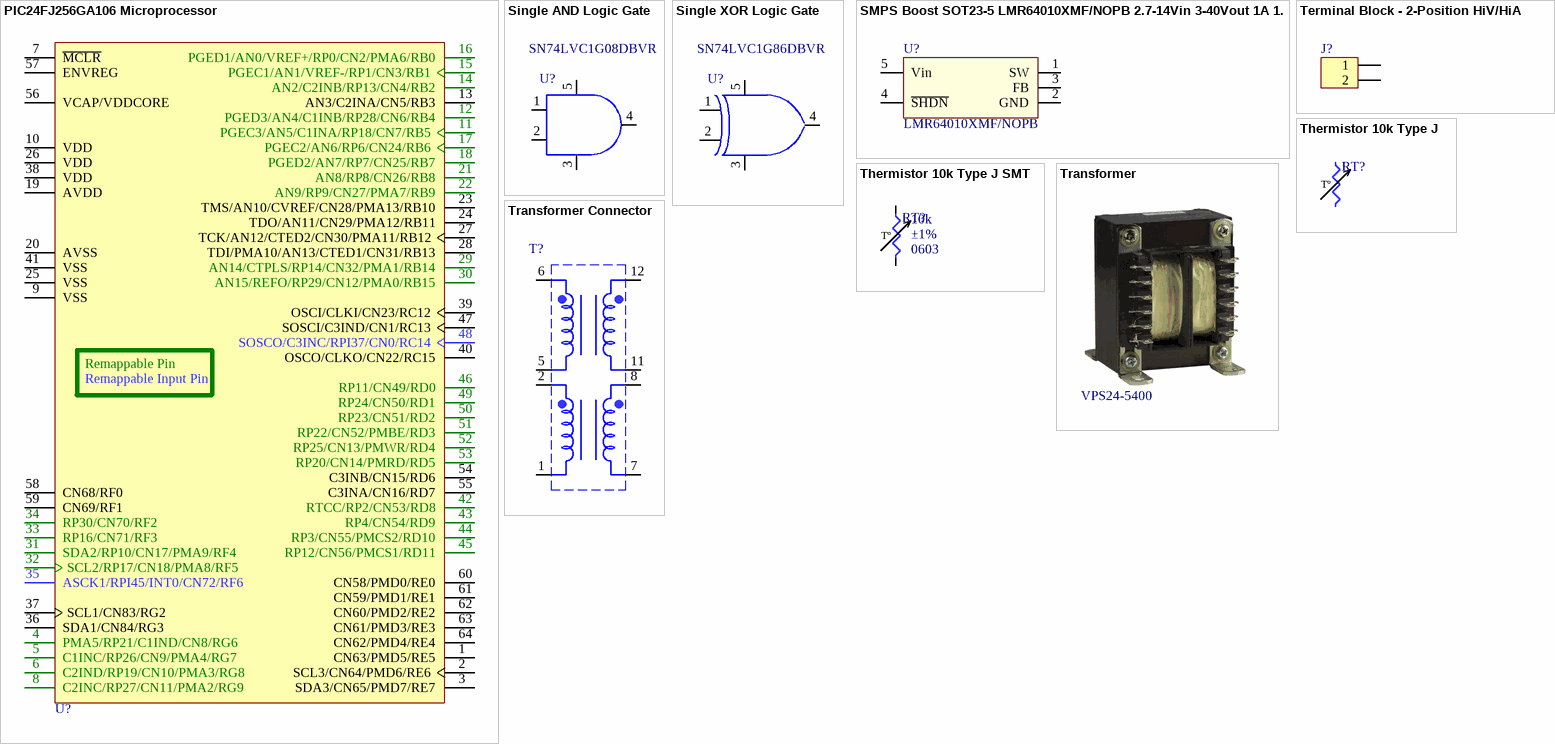
[diagram p1: symbols PIC24FJ256GA106 Microprocessor to Transformer Connector]

## PIC24FJ256GA106 Microprocessor
designator U?
Manufacturer: Microchip Technology; Manufacturer Part Number: PIC24FJ256GA106-I/PT; Value: PIC24FJ256GA106 Microprocessor; Core Processor: PIC; Core Size: 16-Bit; Speed: 32MHz; Connectivity: I²C, PMP, SPI, UART/USART; Peripherals: Brown-out Detect/Reset, LVD, POR, PWM, WDT; Number of I/O: 53; Program Memory Size: 256KB (85.5K x 24); Program Memory Type: FLASH; RAM Size: 16K x 8; Voltage - Supply (Vcc/Vdd): 2 V ~ 3.6 V; Data Converters: A/D 16x10b; Oscillator Type: Internal; Supplier 1: Digi-Key; Supplier Part Number 1: PIC24FJ256GA106-I/PT-ND; RoHS: RoHS Compliant; Category: Integrated Circuits (ICs); Stock 1: 6379; Pricing 1: 1=7.45, 10=6.201, 25=5.6864, 100=5.1477 (CAD); Packaging: Tray; EEPROM Size: -; Operating Temperature: -40°C ~ 85°C; Package / Case: 64-TQFP; Supplier Device Package: 64-TQFP (10x10); ComponentLink1URL: http://www.microchip.com/mymicrochip/filehandler.aspx?ddocname=en534317; ComponentLink1Description: Spec Sheet
footprint TQFP - 64
footprint TQFP-64 0.5mm Breakout Board
pins: 1 CN63/PMD5/RE5, 2 SCL3/CN64/PMD6/RE6, 3 SDA3/CN65/PMD7/RE7, 4 PMA5/RP21/C1IND/CN8/RG6, 5 C1INC/RP26/CN9/PMA4/RG7, 6 C2IND/RP19/CN10/PMA3/RG8, 7 ~{MCLR}, 8 C2INC/RP27/CN11/PMA2/RG9, 9 VSS, 10 VDD, 11 PGEC3/AN5/C1INA/RP18/CN7/RB5, 12 PGED3/AN4/C1INB/RP28/CN6/RB4, 13 AN3/C2INA/CN5/RB3, 14 AN2/C2INB/RP13/CN4/RB2, 15 PGEC1/AN1/VREF-/RP1/CN3/RB1, 16 PGED1/AN0/VREF+/RP0/CN2/PMA6/RB0, 17 PGEC2/AN6/RP6/CN24/RB6, 18 PGED2/AN7/RP7/CN25/RB7, 19 AVDD, 20 AVSS, 21 AN8/RP8/CN26/RB8, 22 AN9/RP9/CN27/PMA7/RB9, 23 TMS/AN10/CVREF/CN28/PMA13/RB10, 24 TDO/AN11/CN29/PMA12/RB11, 25 VSS, 26 VDD, 27 TCK/AN12/CTED2/CN30/PMA11/RB12, 28 TDI/PMA10/AN13/CTED1/CN31/RB13, 29 AN14/CTPLS/RP14/CN32/PMA1/RB14, 30 AN15/REFO/RP29/CN12/PMA0/RB15, 31 SDA2/RP10/CN17/PMA9/RF4, 32 SCL2/RP17/CN18/PMA8/RF5, 33 RP16/CN71/RF3, 34 RP30/CN70/RF2, 35 ASCK1/RPI45/INT0/CN72/RF6, 36 SDA1/CN84/RG3, 37 SCL1/CN83/RG2, 38 VDD, 39 OSCI/CLKI/CN23/RC12, 40 OSCO/CLKO/CN22/RC15, 41 VSS, 42 RTCC/RP2/CN53/RD8, 43 RP4/CN54/RD9, 44 RP3/CN55/PMCS2/RD10, 45 RP12/CN56/PMCS1/RD11, 46 RP11/CN49/RD0, 47 SOSCI/C3IND/CN1/RC13, 48 SOSCO/C3INC/RPI37/CN0/RC14, 49 RP24/CN50/RD1, 50 RP23/CN51/RD2, 51 RP22/CN52/PMBE/RD3, 52 RP25/CN13/PMWR/RD4, 53 RP20/CN14/PMRD/RD5, 54 C3INB/CN15/RD6, 55 C3INA/CN16/RD7, 56 VCAP/VDDCORE, 57 ENVREG, 58 CN68/RF0, 59 CN69/RF1, 60 CN58/PMD0/RE0, 61 CN59/PMD1/RE1, 62 CN60/PMD2/RE2, 63 CN61/PMD3/RE3, 64 CN62/PMD4/RE4
text: Remappable Pin; Remappable Input Pin

## Single AND Logic Gate
designator U?  Manufacturer Part Number: SN74LVC1G08DBVR  (hidden comment: *)
Manufacturer: Texas Instruments; Value: Single AND Logic Gate; Logic Type: AND Gate; Number of Circuits: 1; Number of Inputs: 2; Voltage - Supply: 1.65 V ~ 5.5 V; Current - Quiescent (Max): 10µA; Current - Output High, Low: 32mA, 32mA; Max Propagation Delay @ V, Max CL: 4ns @ 5V, 50pF; Supplier 1: Digi-Key; RoHS: RoHS Compliant; Category: Integrated Circuits (ICs); Stock 1: 17122; Pricing 1: 1=0.42, 10=0.315, 100=0.196, 500=0.134, 1000=0.103 (USD); Packaging: Cut Tape (CT); Part Status: Active; Features: -; Logic Level - Low: -; Logic Level - High: -; Operating Temperature: -40°C ~ 125°C; Mounting Type: Surface Mount; Supplier Device Package: SOT-23-5; Package / Case: SC-74A, SOT-753; ComponentLink1URL: http://www.ti.com/lit/ds/symlink/sn74lvc1g08.pdf; ComponentLink1Description: Spec Sheet; Supplier Part Number 1: 296-11601-1-ND
footprint SOT23-5
pins: 1 A, 2 B, 3 Gnd, 4 Y, 5 Vcc

## Single XOR Logic Gate
designator U?  Manufacturer Part Number: SN74LVC1G86DBVR  (hidden comment: *)
Manufacturer: Texas Instruments; Logic Type: XOR (Exclusive OR); Number of Circuits: 1; Number of Inputs: 2; Voltage - Supply: 1.65 V ~ 5.5 V; Current - Quiescent (Max): 10µA; Current - Output High, Low: 32mA, 32mA; Logic Level - Low: 0.7 V ~ 0.8 V; Logic Level - High: 1.7 V ~ 2 V; Max Propagation Delay @ V, Max CL: 4ns @ 5V, 50pF; Supplier 1: Digi-Key; RoHS: RoHS Compliant; Category: Integrated Circuits (ICs); Stock 1: 19977; Pricing 1: 1=0.36, 10=0.29, 100=0.198, 500=0.1482, 1000=0.111 (USD); Packaging: Cut Tape (CT); Part Status: Active; Features: -; Operating Temperature: -40°C ~ 125°C; Mounting Type: Surface Mount; Supplier Device Package: SOT-23-5; Package / Case: SC-74A, SOT-753; ComponentLink1URL: http://www.ti.com/lit/ds/symlink/sn74lvc1g86.pdf; ComponentLink1Description: Spec Sheet; Supplier Part Number 1: 296-9853-1-ND
footprint SOT23-5
pins: 1 A, 2 B, 3 Gnd, 4 Y, 5 Vcc

## SMPS Boost SOT23-5 LMR64010XMF/NOPB 2.7-14Vin 3-40Vout 1A 1.6MHz
designator U?  Manufacturer Part Number: LMR64010XMF/NOPB
LMR64010XMFE/NOPB; Manufacturer: Texas Instruments; Value: SMPS Boost SOT23-5 LMR64010XMF/NOPB 2.7-14Vin 3-40Vout 1A 1.6MHz; Function: Step-Up; Output Configuration: Positive; Topology: Boost; Output Type: Adjustable; Number of Outputs: 1; Voltage - Input (Min): 2.7V; Voltage - Input (Max): 14V; Voltage - Output (Min/Fixed): 3V; Voltage - Output (Max): 40V (Switch); Current - Output: 1A (Switch); Frequency - Switching: 1.6MHz; Synchronous Rectifier: No; Supplier 1: Digi-Key; Supplier Part Number 1: 296-38770-1-ND; RoHS: RoHS Compliant; Stock 1: 4980; Pricing 1: 1=2.46, 10=2.212, 100=1.7778, 500=1.46062 (CAD); Packaging: Cut Tape (CT); Operating Temperature: -40°C ~ 125°C (TJ); Mounting Type: Surface Mount; Package / Case: SC-74A, SOT-753; Supplier Device Package: SOT-23-5; ComponentLink1URL: http://www.ti.com/lit/ds/symlink/lmr64010.pdf; ComponentLink1Description: Spec Sheet; Category: Integrated Circuits (ICs); Part Status: Active
pins: 1 SW, 2 GND, 3 FB, 4 ~{SHDN}, 5 Vin

## Terminal Block - 2-Position HiV/HiA
designator J?
Manufacturer: TE Connectivity AMP Connectors; Manufacturer Part Number: 796739-2; Number of Levels: 1; Positions Per Level: 2; Pitch: 0.375" (9.53mm); Mating Orientation: Horizontal with Board; Current: 30A; Voltage: 600V; Wire Gauge: 10-30 AWG; Wire Termination: Screw - Rising Cage Clamp; Clamp Material - Plating: Brass - Nickel Plated; Torque - Screw: 0.79 Nm (7.0 Lb-In); Screw Thread: M3; Supplier 1: Digi-Key; RoHS: RoHS Compliant; Category: Connectors, Interconnects; Stock 1: 14124; Pricing 1: 1=2.21, 10=1.673, 25=1.5504, 50=1.394, 100=1.36, 250=1.19, 500=1.088, 1000=0.986, 2500=0.884 (USD); Packaging: Tray; Part Status: Active; Mounting Type: Through Hole; Features: Interlocking (Side); Color: Green; Operating Temperature: -; Housing Material: Polyamide (PA66), Nylon 6/6; Contact Material - Plating: -; Screw Material - Plating: Brass - Nickel Plated; ComponentLink1URL: http://www.te.com/commerce/DocumentDelivery/DDEController?Action=srchrtrv&DocNm=796739&DocType=Customer+Drawing&DocLang=English; ComponentLink1Description: Spec Sheet; Supplier Part Number 1: A98273-ND
footprint TE 796739-2
pins: 1, 2

## Thermistor 10k Type J
designator RT?, comment Tº  (value not drawn)  (mechanical)
Resistor; Manufacturer: Murata Electronics North America; Manufacturer Part Number: NXFT15XH103FA2B025; Value: Thermistor 10k; Resistance in Ohms @ 25°C: 10k; Resistance Tolerance: ±1%; B25/50: 3380K; B25/85: 3434K; B25/100: 3455K; Power - Max: 100mW; Technology: THT; Supplier 1: Digi-Key; Supplier Part Number 1: 490-5628-ND; RoHS: RoHS Compliant; Category: Sensors, Transducers; Stock 1: 21226; Pricing 1: 1=0.91, 10=0.752, 25=0.6608, 50=0.549, 100=0.4676, 250=0.42692, 500=0.4066, 1000=0.35578, 2500=0.34053 (USD); Packaging: Bulk; Part Status: Active; B Value Tolerance: ±1%; B0/50: -; B25/75: -; Operating Temperature: -40°C ~ 125°C; Length - Lead Wire: -; Mounting Type: Free Hanging; Package / Case: Bead; ComponentLink1URL: http://www.murata.com/~/media/webrenewal/support/library/catalog/products/thermistor/ntc/r44e.ashx; ComponentLink1Description: Spec Sheet
footprint Connector - MTA-100 2 Position Friction Lock

## Thermistor 10k Type J SMT
designator RT?  Resistance in Ohms @ 25°C: 10k  Resistance Tolerance: ±1%  Package / Case: 0603  (mechanical)
Resistor; Manufacturer: TDK Corporation; Manufacturer Part Number: NTCG163JF103FTDS; Value: Thermistor 10k Type J SMT; B25/50: 3380K; B25/85: 3435K; Supplier 1: Digi-Key; RoHS: RoHS Compliant; Category: Sensors, Transducers; Stock 1: 5895; Pricing 1: 1=0.3, 5=0.282, 10=0.251, 25=0.2312, 50=0.1848, 100=0.1584, 500=0.1386, 1000=0.1188 (USD); Packaging: Cut Tape (CT); Part Status: Active; B Value Tolerance: ±1%; B0/50: -; B25/75: -; B25/100: -; Operating Temperature: -40°C ~ 125°C; Power - Max: -; Length - Lead Wire: -; Mounting Type: Surface Mount; ComponentLink1URL: https://product.tdk.com/info/en/catalog/datasheets/tpd_automotive_ntc-thermistor_ntcg_en.pdf; ComponentLink1Description: Spec Sheet; Supplier Part Number 1: 445-174516-1-ND
pins: 1, 2
text: Tº

## Transformer
designator Transformer?  Manufacturer Part Number: VPS24-5400  (hidden comment: *)
Manufacturer: Triad Magnetics; Voltage - Primary: 115V, 230V; Voltage - Secondary (Full Load): Parallel 12V, Series 24V; Current - Output (Max): Parallel 10.8A, Series 5.4A; Primary Winding(s): Dual; Center Tap: No; Power - Max: 130 VA; Voltage - Isolation: 4000Vrms; Supplier 1: Digi-Key; RoHS: RoHS Compliant; Category: Transformers; Stock 1: 223; Pricing 1: 1=27.01, 10=23.831, 25=23.0364, 50=20.6534, 100=19.8591 (USD); Part Status: Active; Type: Laminated Core; Secondary Winding(s): Dual; Mounting Type: Chassis Mount; Termination Style: Solder, Quick Connect; Size / Dimension: 60.45mm L x 68.33mm W; Height - Seated (Max): 85.85mm; ComponentLink1URL: http://catalog.triadmagnetics.com/Asset/VPS24-5400.pdf; ComponentLink1Description: Spec Sheet; Supplier Part Number 1: 237-1277-ND
footprint Transformer

## Transformer Connector
designator T?  (value not drawn)  (no BOM)
footprint Transformer Connector
pins: 1, 2, 5, 6, 7, 8, 11, 12